# Altium footprint library SG_PCB_AltSobor.PcbLib: 45 footprints (part 1 of 3)
Each footprint in its own frame and in the unit in brackets; x right, y up, seen from the top. Pads: shape width x height; smd on the part's side, far side on the other; paste and mask are expansions set on the pad; w line width, h text height; cw(c..) or ccw(c..) is an arc to the next point about the centre after c.
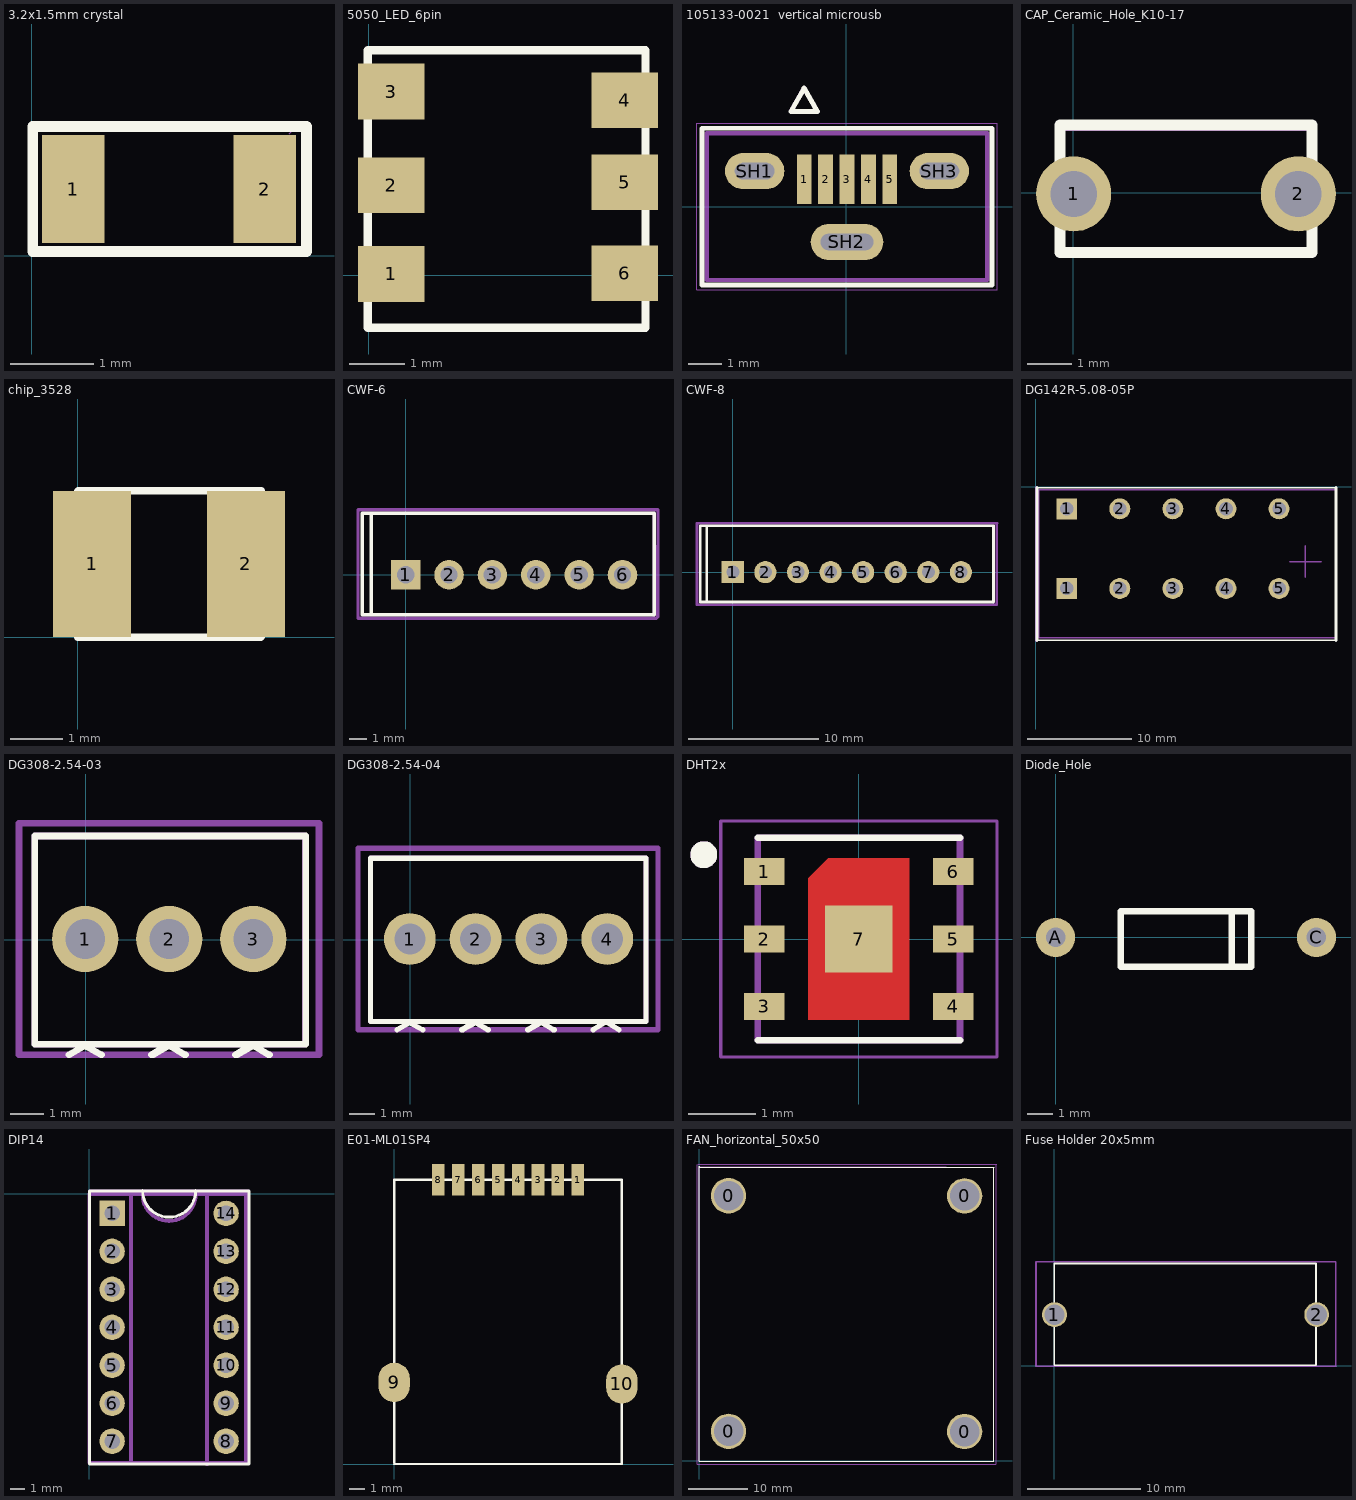
[diagram p0: the footprints below, top view; thin cyan lines are the x and y axes]

## 3.2x1.5mm crystal [mm]
pads (2):
  rect 0.75x1.3 smd: 1(0.5,0.8) 2(2.8,0.8)
Top Overlay:
  lines w0.127: 0.016,1.55 3.3,1.55 3.3,0.05 0.116,0.05 0.016,0.05 0.016,1.55
Mechanical 15:
  lines w0.003: 3.094,1.464 3.144,1.515

## 5050_LED_6pin [mm]
pads (6):
  rect 1.2x1 smd: 1(0.405,0.02) 2(0.405,1.62) 3(0.405,3.305) 4(4.605,3.145) 5(4.605,1.675) 6(4.605,0.03)
Top Overlay:
  lines w0.15: -0.02,-0.95 4.98,-0.95 4.98,4.05 -0.02,4.05 -0.02,-0.95

## 105133-0021  vertical microusb [mm]
pads (8):
  rect 0.448x1.5 smd mask+0.064: 1(-1.28,0.825) 2(-0.63,0.825) 3(0.02,0.825) 4(0.67,0.825) 5(1.32,0.825)
  oval 1.8x1.1 hole 0.5 slot 1.2 at 0 deg mask+0.064: SH1(-2.78,1.075) SH3(2.82,1.075)
  oval 2.2x1.1 hole 0.5 slot 1.6 at 0 deg mask+0.064: SH2(0.02,-1.075)
Top Overlay:
  lines w0.15: -4.38,-2.375 -4.38,2.375 4.42,2.375 4.42,-2.375 -4.38,-2.375 ; -1.68,2.89 -1.28,3.59 -0.88,2.89 -1.68,2.89
Top Assembly:
  text "'.Designator'" at 0.02,0.533 h0.7
Mechanical 13:
  lines w0.13: -4.23,-2.225 -4.23,2.225 4.27,2.225 4.27,-2.225 -4.23,-2.225 ; -1.68,2.89 -1.28,3.59 -0.88,2.89 -1.68,2.89
Mechanical 15:
  lines w0.01: -4.53,-2.525 -4.53,2.525 4.57,2.525 4.57,-2.525 -4.53,-2.525

## CAP_Ceramic_Hole_K10-17 [mm]
pads (2):
  round 1.7 hole 1.05: 1(0.005,-0.03) 2(5.09,-0.03)
Top Overlay:
  lines w0.254: -0.305,-1.355 -0.305,1.53 5.4,1.53 5.4,-1.355 -0.305,-1.355
Top Assembly:
  lines w0.15: -0.315,-1.355 -0.315,1.44 -0.29,1.465 5.36,1.465 5.4,1.425 5.4,-1.355 -0.315,-1.355
Bottom Assembly:
  lines w0.15: -0.29,-1.365 5.375,-1.365 5.4,-1.34 5.4,1.53 -0.24,1.53 -0.28,1.49 -0.28,-1.355 -0.29,-1.365
Top Courtyard:
  lines w0.15: -0.315,-1.315 -0.315,1.48 -0.305,1.49 5.36,1.49 5.4,1.45 5.4,-1.315 -0.315,-1.315
3D body "User Library-K10-17-1B-H90-0_1uF.STEP": height 7, standoff -2.5, extent -0.261,-1.41 5.341,1.592

## chip_3528 [mm]
pads (2):
  rect 1.5x2.8 smd: 1(0.27,1.405) 2(3.22,1.405)
Top Overlay:
  lines w0.15: 0,2.8 0,0 3.5,0 ; 0.01,2.81 3.51,2.81 3.51,0.01
3D body: height 2, standoff 0, extent -0.005,0 3.51,2.82

## CWF-6 [mm]
pads (6):
  rect 1.7x1.7 hole 1 mask+0.05: 1(0,0)
  round 1.7 hole 1 mask+0.05: 2(2.5,0) 3(5,0) 4(7.5,0) 5(9.995,0) 6(12.495,0)
Top Overlay:
  lines w0.2: -1.984,-2.265 -1.984,3.556 ; -2.5,-2.286 -2.5,3.556 14.335,3.556 14.335,-2.286 -2.5,-2.286
Top Assembly:
  lines w0.15: 14.305,-2.476 14.305,3.556 -2.5,3.556 -2.5,-2.286 14.32,-2.286
Top Courtyard:
  lines w0.2: -2.743,-2.5 14.44,-2.5 14.525,-2.415 14.525,1.665 14.54,1.68 14.54,3.19 14.54,3.75 -2.743,3.75 -2.743,-2.5
3D body: height 0.25, standoff 0, extent -2.495,-2.27 14.345,3.57

## CWF-8 [mm]
pads (8):
  rect 1.7x1.7 hole 1 mask+0.05: 1(0,0)
  round 1.7 hole 1 mask+0.05: 2(2.5,0) 3(5,0) 4(7.5,0) 5(9.995,0) 6(12.495,0) 7(14.995,0) 8(17.495,0)
Top Overlay:
  lines w0.2: -1.984,-2.265 -1.984,3.556 ; -2.5,-2.286 19.99,-2.286 19.99,3.556 -2.5,3.556 -2.5,-2.286
Top Assembly:
  lines w0.15: 19.99,-2.476 19.99,3.545 ; 20,-2.286 -2.5,-2.286 -2.5,3.556 20.015,3.556
Top Courtyard:
  lines w0.2: 20.244,3.749 20.244,-2.486 20.23,-2.5 -2.743,-2.5 -2.743,3.75 20.26,3.75
3D body "User Library-DS1069-8 CWF-8.STEP": height 7, standoff -3.5, extent -2.48,-2.21 20.02,3.54

## DG142R-5.08-05P [mm]
pads (10):
  rect 2x2 hole 1.3 unplated: 1(2.975,-9.735) 1(2.975,-2.115)
  round 2 hole 1.3 unplated: 2(8.055,-9.735) 2(8.055,-2.115) 3(13.135,-9.735) 3(13.135,-2.115) 4(18.215,-9.735) 4(18.215,-2.115) 5(23.295,-9.735) 5(23.295,-2.115)
Top Overlay:
  lines w0.15: 0.135,-14.695 28.745,-14.695 ; 0.135,-0.095 28.745,-0.095
  lines w0.3: 0.135,-14.695 0.135,-0.095 ; 28.745,-14.695 28.745,-0.095
Top Assembly:
  lines w0.15: 0.31,-14.47 28.73,-14.47 28.73,-0.27 0.31,-0.27 0.31,-14.47
Undefined:
  lines w0.15: 0.035,-14.795 0.035,0.005 ; 24.31,-7.17 27.31,-7.17 ; 25.81,-8.67 25.81,-5.67
3D body "User_Library-DG142R-5-5_08.step": height 13, standoff -3.69, extent 0.455,-14.415 28.395,-0.415

## DG308-2.54-03 [mm]
pads (3):
  round 2 hole 1.2: 1(-0.01,0.02) 2(2.53,0.02) 3(5.07,0.02)
Top Overlay:
  lines w0.2: -0.51,-3.48 -0.018,-3.206 0.49,-3.48 ; 1.012,-3.166 6.572,-3.166 ; 1.012,3.134 6.572,3.134 ; 1.99,-3.48 2.49,-3.166 2.99,-3.48 ; 2.03,-3.48 2.522,-3.206 3.03,-3.48 ; 3.552,-3.166 6.65,-3.166 6.65,3.134 3.552,3.134 ; 4.032,-3.166 -1.528,-3.166 -1.528,3.134 4.032,3.134 ; 4.53,-3.48 5.03,-3.166 5.53,-3.48 ; 4.57,-3.48 5.062,-3.206 5.57,-3.48
Top Assembly:
  lines w0.2: 1.012,-3.166 6.572,-3.166 ; 1.012,3.134 6.572,3.134 ; 3.552,-3.166 6.64,-3.166 6.64,3.134 3.552,3.134 ; 4.032,-3.166 -1.528,-3.166 -1.528,3.134 4.032,3.134
Top Courtyard:
  lines w0.2: 0.53,-3.48 7.03,-3.48 ; 0.53,3.52 7.03,3.52 ; 3.07,-3.48 7.055,-3.48 7.055,3.52 3.07,3.52 ; 4.49,-3.48 -2.01,-3.48 -2.01,3.52 4.49,3.52
3D body "DG308-2.54-02.stp": height 8.55, standoff -3.6, extent -1.528,-3.166 4.032,3.134
3D body "DG308-2.54-02.stp": height 8.55, standoff -3.6, extent 1.012,-3.166 6.572,3.134

## DG308-2.54-04 [mm]
pads (4):
  round 2 hole 1.2: 1(-0.01,0.02) 2(2.53,0.02) 3(5.07,0.02) 4(7.61,0.02)
Top Overlay:
  lines w0.2: -0.51,-3.48 -0.018,-3.206 0.49,-3.48 ; 1.012,-3.166 6.572,-3.166 ; 1.012,3.134 6.572,3.134 ; 1.99,-3.48 2.49,-3.166 2.99,-3.48 ; 2.03,-3.48 2.522,-3.206 3.03,-3.48 ; 3.552,-3.166 9.112,-3.166 9.112,3.134 3.552,3.134 ; 4.032,-3.166 -1.528,-3.166 -1.528,3.134 4.032,3.134 ; 4.53,-3.48 5.03,-3.166 5.53,-3.48 ; 4.57,-3.48 5.062,-3.206 5.57,-3.48 ; 7.07,-3.48 7.57,-3.166 8.07,-3.48
Top Assembly:
  lines w0.2: 1.012,-3.166 6.572,-3.166 ; 1.012,3.134 6.572,3.134 ; 3.552,-3.166 9.112,-3.166 9.112,3.134 3.552,3.134 ; 4.032,-3.166 -1.528,-3.166 -1.528,3.134 4.032,3.134
Top Courtyard:
  lines w0.2: 0.53,-3.48 7.03,-3.48 ; 0.53,3.52 7.03,3.52 ; 3.07,-3.48 9.57,-3.48 9.57,3.52 3.07,3.52 ; 4.49,-3.48 -2.01,-3.48 -2.01,3.52 4.49,3.52
3D body "DG308-2.54-02.stp": height 8.55, standoff -3.6, extent -1.528,-3.166 4.032,3.134
3D body "DG308-2.54-02.stp": height 8.55, standoff -3.6, extent 1.012,-3.166 6.572,3.134
3D body "DG308-2.54-02.stp": height 8.55, standoff -3.6, extent 3.552,-3.166 9.112,3.134

## DHT2x [mm]
pads (7):
  rect 0.6x0.4 smd paste-1: 1(-1.4,1) 2(-1.4,0) 3(-1.4,-1) 4(1.4,-1) 5(1.4,0) 6(1.4,1)
  rect 1x1 smd paste-1 mask+0: 7(0,0)
Top Layer:
  region: 0.75,-1.2 -0.75,-1.2 -0.75,0.9 -0.45,1.2 0.75,1.2
Top Overlay:
  circle w0.2: c-2.3,1.25 r0.1
  lines w0.1: -1.5,-1.5 1.5,-1.5 ; -1.5,1.5 1.5,1.5
Top Paste:
  region: -1.2,0.8 -1.7,0.8 -1.7,1.2 -1.2,1.2
  region: -1.2,-0.2 -1.7,-0.2 -1.7,0.2 -1.2,0.2
  region: -1.2,-1.2 -1.7,-1.2 -1.7,-0.8 -1.2,-0.8
  region: 1.7,0.8 1.2,0.8 1.2,1.2 1.7,1.2
  region: 1.7,-0.2 1.2,-0.2 1.2,0.2 1.7,0.2
  region: 1.7,-1.2 1.2,-1.2 1.2,-0.8 1.7,-0.8
  region: 0.7,-1.15 -0.7,-1.15 -0.7,0.875 -0.425,1.15 0.7,1.15
Top Solder:
  region: 0.755,1.3 0.76,1.299 0.766,1.299 0.771,1.298 0.776,1.297 0.781,1.295 0.786,1.293 0.791,1.291 0.795,1.289 0.8,1.287 0.804,1.284 0.809,1.281 0.813,1.278 0.817,1.274 0.821,1.271 0.824,1.267 0.828,1.263 0.831,1.259 0.834,1.254 0.837,1.25 0.839,1.245 0.841,1.241 0.843,1.236 0.845,1.231 0.847,1.226 0.848,1.221 0.849,1.216 0.849,1.21 0.85,1.205 0.85,1.2 0.85,-1.2 0.85,-1.205 0.849,-1.21 0.849,-1.216 0.848,-1.221 0.847,-1.226 0.845,-1.231 0.843,-1.236 0.841,-1.241 0.839,-1.245 0.837,-1.25 0.834,-1.254 0.831,-1.259 0.828,-1.263 0.824,-1.267 0.821,-1.271 0.817,-1.274 0.813,-1.278 0.809,-1.281 0.804,-1.284 0.8,-1.287 0.795,-1.289 0.791,-1.291 0.786,-1.293 0.781,-1.295 0.776,-1.297 0.771,-1.298 0.766,-1.299 0.76,-1.299 0.755,-1.3 0.75,-1.3 -0.75,-1.3 -0.755,-1.3 -0.76,-1.299 -0.766,-1.299 -0.771,-1.298 -0.776,-1.297 -0.781,-1.295 -0.786,-1.293 -0.791,-1.291 -0.795,-1.289 -0.8,-1.287 -0.804,-1.284 -0.809,-1.281 -0.813,-1.278 -0.817,-1.274 -0.821,-1.271 -0.824,-1.267 -0.828,-1.263 -0.831,-1.259 -0.834,-1.254 -0.837,-1.25 -0.839,-1.245 -0.841,-1.241 -0.843,-1.236 -0.845,-1.231 -0.847,-1.226 -0.848,-1.221 -0.849,-1.216 -0.849,-1.21 -0.85,-1.205 -0.85,-1.2 -0.85,0.9 -0.85,0.971 -0.521,1.3 0.75,1.3
Mechanical 13:
  circle w0.2: c-2.3,1.25 r0.1
  lines w0.1: -1.5,-1.5 -1.5,1.5 1.5,1.5 1.5,-1.5 -1.5,-1.5
Mechanical 15:
  lines w0.05: -2.05,-1.75 2.05,-1.75 2.05,1.75 -2.05,1.75 -2.05,-1.75

## Diode_Hole [mil]
pads (2):
  round 60 hole 30: A(0,0) C(400,0)
Top Overlay:
  lines w10: 270,-45 270,40 ; 100,-45 100,40 300,40 300,-45 100,-45
3D body "diode3.stp": height 117.99, standoff 0, extent -19.69,-64.06 419.68,53.58

## DIP14 [mm]
pads (14):
  rect 1.7x1.7 hole 1.05 mask+0.05: 1(1.524,-1.301)
  round 1.7 hole 1.05 mask+0.05: 2(1.524,-3.841) 3(1.524,-6.381) 4(1.524,-8.921) 5(1.524,-11.461) 6(1.524,-14.001) 7(1.524,-16.541) 8(9.144,-16.541) 9(9.144,-14.001) 10(9.144,-11.461) 11(9.144,-8.921) 12(9.144,-6.381) 13(9.144,-3.841) 14(9.144,-1.301)
Top Overlay:
  lines w0.2: 3.556,0.223 ccw(c5.334,0.223) 7.112,0.223 ; 0,-18.065 10.668,-18.065 10.668,0.189 0,0.189 0,-18.065
Top Assembly:
  lines w0.254: 0,0 -0.014,0 ; 2.794,-18.005 2.794,-0.031 ; 3.556,-0.031 ccw(c5.334,-0.031) 7.112,-0.031 ; 7.874,-18.065 7.874,-0.031 ; -0.014,0 10.486,0 10.486,-17.985 -0.014,-17.985 -0.014,0
Undefined:
  lines w0.15: 0,-17.965 0,0.223 10.668,0.223 10.668,-17.965 0,-17.965
3D body "dip-14.step": height 5.4, standoff 0, extent 1.215,-18.445 9.135,0.855

## E01-ML01SP4 [mm] "NRF-module"
pads (10):
  rect 0.8x2 smd: 1(11.7,18.1) 2(10.43,18.1) 3(9.16,18.1) 4(7.89,18.1) 5(6.62,18.1) 6(5.35,18.1) 7(4.08,18.1) 8(2.81,18.1)
  oval 2x2.5 smd: 9(0,5.2) 10(14.5,5.1)
Top Overlay:
  lines w0.15: 0,0 14.5,0 14.5,18 ; 0,0.1 0,18.1 14.5,18.1

## FAN_horizontal_50x50 [mm]
pads (4):
  round 6 hole 5: 0(5,5.02) 0(5,45.015) 0(45.07,4.99) 0(45.07,44.985)
Top Overlay:
  lines w0.15: 0,-0.01 0,49.98 0.115,49.865 50.105,49.865 49.99,49.75 49.99,-0.01 0,-0.01
Bottom Assembly:
  lines w0.15: -0.315,-0.515 -0.315,50.25 -0.165,50.4 50.52,50.4 50.445,50.325 50.445,-0.44 50.37,-0.515 -0.315,-0.515
Top Courtyard:
  lines w0.15: -0.055,49.925 0,49.87 0,-0.01 49.99,-0.01 49.99,49.865 41.89,49.865 41.83,49.925 -0.055,49.925
3D body "FAN 50x50x15mm.step": height 15, standoff 0, extent 0,0.005 50,50.005

## Fuse Holder 20x5mm [mm]
pads (2):
  round 2.2 hole 1.8: 1(0,4.5) 2(23.175,4.5)
Top Overlay:
  lines w0.15: -0.015,0.03 23.12,0.03 23.12,9.025 -0.015,9.025 -0.015,0.03
Top Courtyard:
  lines w0.15: -1.63,9.18 -1.63,-0.065 24.88,-0.065 24.855,-0.04 24.855,9.18 -1.63,9.18 ; -1.63,9.18 -1.63,9.18
3D body "User Library-Fuse_Holder.STEP": height 12.44, standoff -6.4, extent 0.015,0.01 23.175,9.01